# EAGLE library part 3.3V_AS1363 (library foe-scale)
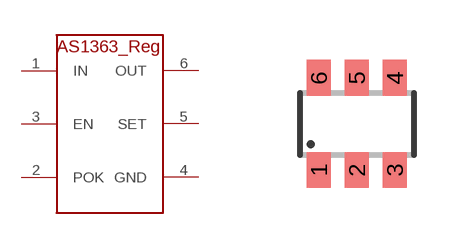
[diagram p1: symbol with the pads of SOT23-6; footprint SOT23-6]

Designator prefix U2

## 3.3V_AS1363  [SOT23-6]
1  IN
2  POK
3  EN
4  GND
5  SET
6  OUT

## Footprint SOT23-6 (pad centres in mm)
Small Outline Transistor 6 lead
smd 0.6 x 0.9: 1 -0.95,-1.15; 2 0,-1.15; 3 0.95,-1.15; 4 0.95,1.15; 5 0,1.15; 6 -0.95,1.15